# Altium schematic symbol library Connector.SchLib: 4 symbols
Pins are listed as number, name and electrical type; pins without a type are passive.

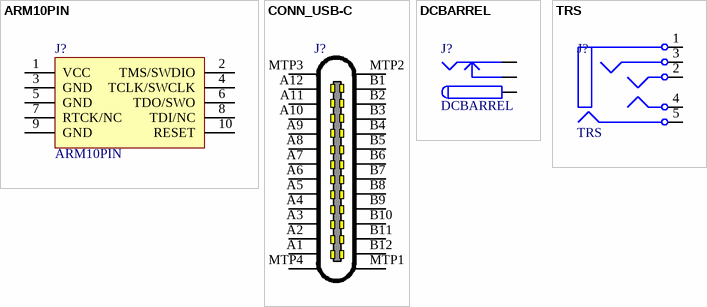
[diagram p0: symbols ARM10PIN to TRS]

## ARM10PIN
designator J?
ARM 10 Pin
pins: 1 VCC, 2 TMS/SWDIO, 3 GND, 4 TCLK/SWCLK, 5 GND, 6 TDO/SWO, 7 RTCK/NC, 8 TDI/NC, 9 GND, 10 RESET

## CONN_USB-C
designator J?, comment USB-C  (value not drawn)
pins: A1, A2, A3, A4, A5, A6, A7, A8, A9, A10, A11, A12, B1, B2, B3, B4, B5, B6, B7, B8, B9, B10, B11, B12, MTP1, MTP2, MTP3, MTP4

## DCBARREL
designator J?
footprint KLD-0202 (DC Power Jack, 2.5mm, KLD Series, PCB Mount)
signal-integrity model Connector
pins: 1 (power), 2B (power), 3 (power)

## TRS
designator J?
pins: 1 S, 2 T, 3 R, 4 T, 5